# Altium integrated library MT3608.IntLib: 1 symbol
Pins are listed as number, name and electrical type; pins without a type are passive.

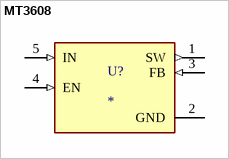
[diagram p0: symbol MT3608]

## MT3608
designator U?
High Efficiency 1.2MHz 2A Step Up Converter; MP: MT3608; Value: *; Availability: Unavailable; Price: None; Package: None
footprint SOT95P280X145-6N
pins: 1 SW (out), 2 GND (power), 3 FB (in), 4 EN (in), 5 IN (in)